# EAGLE library part ACPL227 (library user_ic)
bloadcom Phototransistor Optocoupler 汎用品 t_on,off = 3us 程度
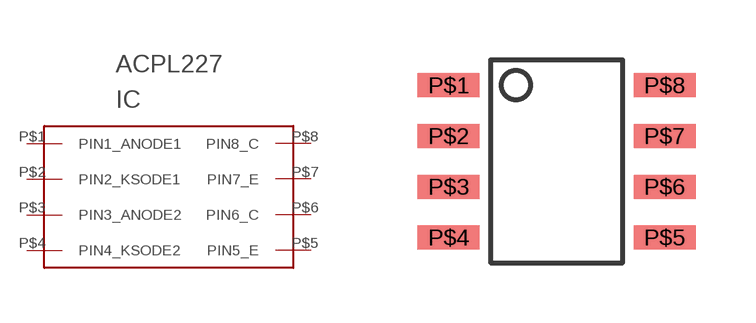
[diagram p17: symbol with the pads of SOIC8; footprint SOIC8]

Designator prefix IC

## ACPL227  [SOIC8]
P$1  PIN1_ANODE1
P$2  PIN2_KSODE1
P$3  PIN3_ANODE2
P$4  PIN4_KSODE2
P$5  PIN5_E
P$6  PIN6_C
P$7  PIN7_E
P$8  PIN8_C

## Footprint SOIC8 (pad centres in mm)
時々SOPと表記されることがある。 幅が異なるため確認をすること
smd 1.55 x 0.6: P$1 -2.7,1.905; P$2 -2.7,0.635; P$3 -2.7,-0.635; P$4 -2.7,-1.905; P$5 2.7,-1.905; P$6 2.7,-0.635; P$7 2.7,0.635; P$8 2.7,1.905